# Altium schematic symbol library SCH - POWER - LINEAR VREG - TI LP5900SD-1.5.SchLib: 1 symbol
Pins are listed as number, name and electrical type; pins without a type are passive.

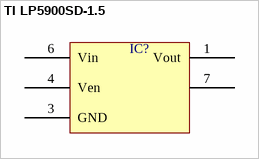
[diagram p0: symbol TI LP5900SD-1.5]

## TI LP5900SD-1.5
designator IC?  (value not drawn)
pins: 1 Vout, 3 GND, 4 Ven, 6 Vin, 7